# Altium integrated library PAM8907SB10-7.IntLib: 1 symbol
Pins are listed as number, name and electrical type; pins without a type are passive.

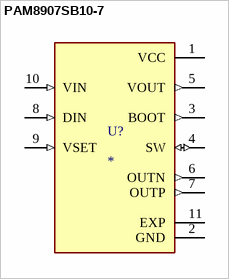
[diagram p0: symbol PAM8907SB10-7]

## PAM8907SB10-7
designator U?
The PAM8907 is a piezoelectric sounder driver with a built-in boostconverter capable of driving a ceramic/piezo sounder with up to 31VPP output.; MF: Diodes Zetex; MP: PAM8907SB10-7; SnapEDA_Link: https://www.snapeda.com/parts/PAM8907SB10-7/Diodes+Inc./view-part/?ref=snap; Package: None; Value: *; Check_prices: https://www.snapeda.com/parts/PAM8907SB10-7/Diodes+Inc./view-part/?ref=eda
footprint IC_PAM8907SB10-7
pins: 1 VCC (power), 2 GND (power), 3 BOOT (out), 4 SW (io), 5 VOUT (out), 6 OUTN (out), 7 OUTP (out), 8 DIN (in), 9 VSET (in), 10 VIN (in), 11 EXP (power)